# Altium schematic symbol library Switch.SchLib: 2 symbols
Pins are listed as number, name and electrical type; pins without a type are passive.

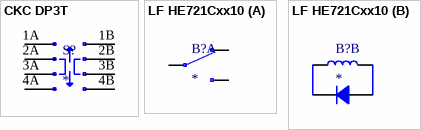
[diagram p0: symbols CKC DP3T to LF HE721Cxx10]

## CKC DP3T
designator S?
pins: 1A, 1B, 2A, 2B, 3A, 3B, 4A, 4B

## LF HE721Cxx10
designator B?
part A pins: 1 NC, 7 C, 8 C, 14 NO
part B pins: 2 -, 2 Cathode, 6 +, 6 Anode